# Altium integrated library Linear Technology PMIC-Switching Reg LTC1174-LTC3901.IntLib: 2647 symbols (part 203 of 310)
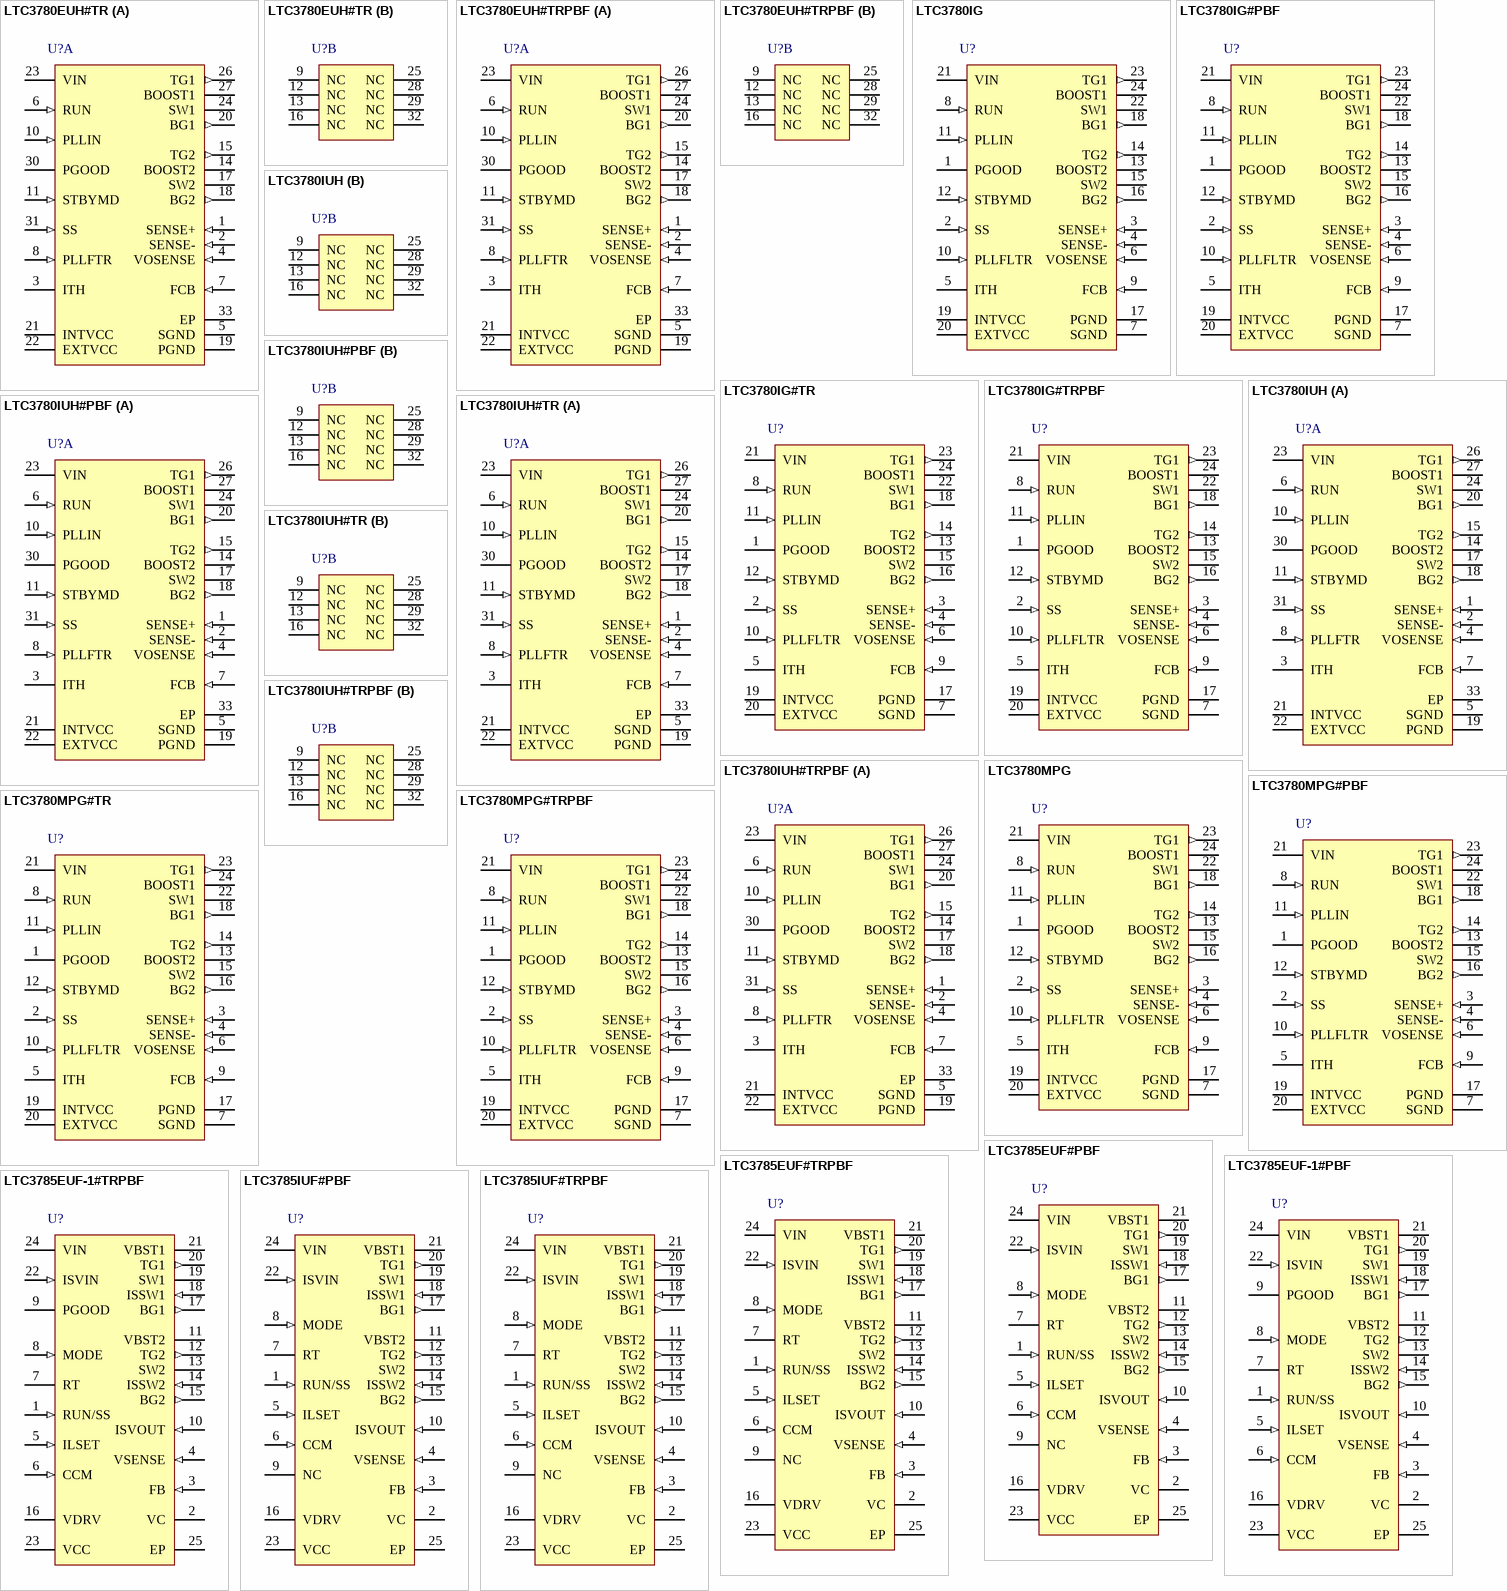
[diagram p235: symbols LTC3780EUH#TR to LTC3785IUF#TRPBF]

## LTC3785EUF-1#PBF
designator U?
10 V, High Efficiency, Buck-Boost Controller with Power Good, 24-pin QFN (UF24), -40 to 85 degC, Pb-Free; Manufacturer: Linear Technology; PartNumber: LTC3785EUF-1#PBF; Number of Outputs: 1; PackageReference: UF24; PackageDescription: 24-Pin Plastic QFN, Body 4 x 4 mm, Pitch 0.5 mm; Supplier 1: Digi-Key; Supplier Part Number 1: LTC3785EUF-1#PBF-ND; RoHS: TRUE; Code_JEDEC: MO-220
footprint LT-UF-24_N (QFN, 24-Leads, Body 4.1x4.1mm, Pitch 0.5mm, Thermal Pad 2.45x2.45mm, IPC Medium Density)
footprint LT-UF-24_L (QFN, 24-Leads, Body 4.1x4.1mm, Pitch 0.5mm, Thermal Pad 2.45x2.45mm, IPC High Density)
footprint LT-UF-24_M (QFN, 24-Leads, Body 4.1x4.1mm, Pitch 0.5mm, Thermal Pad 2.45x2.45mm, IPC Low Density)
pins: 1 RUN/SS (in), 2 VC "Error Amp Output. A frequency compensation network is connected from this pin to the FB pin to compensate the loop. See the section Closing the Feedback Loop in the Applications Information section for guidelines.", 3 FB (in) "Feedback Pin. Connect resistor divider tap here. The feedback reference voltage is typically 1.225V The output voltage can be adjusted from 2.7V to 10V according to the following formula: VOUT = 1.225V ?(R1+R2) /R2", 4 VSENSE (in) "Overvoltage and Undervoltage Sense. The overvoltage threshold is internally set 7.5% above the regulated FB voltage and the undervoltage threshold is internally set 7.5% below the FB regulated voltage. This pin can be tied (See Datasheet)", 5 ILSET (in) "Current Limit Set. A resistor from this pin to ground sets the current limit threshold from the ISVIN and ISSW1 pins.", 6 CCM (in) "Continuous Conduction Mode Control Pin. When set low, the inductor current is allowed to go slightly negative (-15mV referenced to the ISVOUT - ISSW2 pins). When driven high, the reverse current limit is set to the similar (See Datasheet)", 7 RT "Oscillator Programming Pin. A resistor from this pin to GND sets the free-running frequency of the IC.", 8 MODE (in) "Burst Mode Control Pin. MODE = High: Enable Burst Mode Operation. In Burst Mode operation the operation is variable frequency, which provides a significant efficiency improvement at light loads. The Burst Mode operation will (See Datasheet)", 9 PGOOD (oc) "Open Drain Output. PGOOD is pulled to ground when the voltage on VSENSE is not within +/-7.5% of its setpoint. PGOOD will also be pulled low when the part is in shutdown or input UVLO.", 10 ISVOUT (in) "Reverse Current Limit Comparator Noninverting Input. This pin is normally connected to the drain of the N-channel MOSFET D (TG2 driven).", 11 VBST2 "Boosted Floating Driver Supply for Boost Switch D. This pin will swing from a diode below VCC up to VOUT + VCC - VDIODE.", 12 TG2 (out) "Top gate drive pins drive the top N-channel MOSFET switches A and D with a voltage swing equal to VCC - VDIODE superimposed on the SW1 and SW2 nodes respectively.", 13 SW2 "Ground Reference for Driver D. Gate drive from TG2 will reference to the common point of output switches C and D.", 14 ISSW2 (in) "Reverse Current Limit Comparator Inverting Input. This pin is normally connected to the source of the N-channel MOSFET D (TG2 driven).", 15 BG2 (out) "Bottom gate driver pins drive the ground referenced N-channel MOSFET switches B and C.", 16 VDRV (power) "Driver Supply for Ground Referenced Switches. Connect this pin to VCC potential.", 17 BG1 (out) "Bottom gate driver pins drive the ground referenced N-channel MOSFET switches B and C.", 18 ISSW1 (in) "Forward Current Limit Comparator Noninverting Input. This pin is normally connected to the source of the N-channel MOSFET A (TG1 driven).", 19 SW1 "Ground Reference for Driver A. Gate drive from TG1 will reference to the common point of output switches A and B.", 20 TG1 (out) "Top gate drive pins drive the top N-channel MOSFET switches A and D with a voltage swing equal to VCC - VDIODE superimposed on the SW1 and SW2 nodes respectively.", 21 VBST1 "Boosted Floating Driver Supply for the Buck Switch A. This pin will swing from a diode below VCC up to VIN + VCC - VDIODE.", 22 ISVIN (in) "Forward Current Limit Comparator Inverting Input. This pin is normally connected to the drain of N-channel MOSFET A (TG1 driven).", 23 VCC (power) "Internal 4.35V LDO Regulator Output. The driver and control circuits are powered from this voltage to limit the maximum VGS drive voltage. Decouple this pin to power ground with at least a 4.7uF ceramic capacitor. For low (See Datasheet)", 24 VIN (power) "Input Supply Pin for the VCC Regulator. A ceramic capacitor of at least 10uF is recommended close to the VIN and GND pins.", 25 EP (power) "The GND and PGND pins are connected to the Exposed Pad which must be connected to the PCB ground for electrical contact and rated thermal performance."

## LTC3785EUF-1#TRPBF
designator U?
10 V, High Efficiency, Buck-Boost Controller with Power Good, 24-pin QFN (UF24), -40 to 85 degC, Pb-Free, Tape and Reel; Manufacturer: Linear Technology; PartNumber: LTC3785EUF-1#TRPBF; Number of Outputs: 1; PackageReference: UF24; PackageDescription: 24-Pin Plastic QFN, Body 4 x 4 mm, Pitch 0.5 mm; Supplier 1: Digi-Key; Supplier Part Number 1: LTC3785EUF-1#TRPBF-ND; RoHS: TRUE; Code_JEDEC: MO-220
footprint LT-UF-24_N (QFN, 24-Leads, Body 4.1x4.1mm, Pitch 0.5mm, Thermal Pad 2.45x2.45mm, IPC Medium Density)
footprint LT-UF-24_L (QFN, 24-Leads, Body 4.1x4.1mm, Pitch 0.5mm, Thermal Pad 2.45x2.45mm, IPC High Density)
footprint LT-UF-24_M (QFN, 24-Leads, Body 4.1x4.1mm, Pitch 0.5mm, Thermal Pad 2.45x2.45mm, IPC Low Density)
pins: 1 RUN/SS (in), 2 VC "Error Amp Output. A frequency compensation network is connected from this pin to the FB pin to compensate the loop. See the section Closing the Feedback Loop in the Applications Information section for guidelines.", 3 FB (in) "Feedback Pin. Connect resistor divider tap here. The feedback reference voltage is typically 1.225V The output voltage can be adjusted from 2.7V to 10V according to the following formula: VOUT = 1.225V ?(R1+R2) /R2", 4 VSENSE (in) "Overvoltage and Undervoltage Sense. The overvoltage threshold is internally set 7.5% above the regulated FB voltage and the undervoltage threshold is internally set 7.5% below the FB regulated voltage. This pin can be tied (See Datasheet)", 5 ILSET (in) "Current Limit Set. A resistor from this pin to ground sets the current limit threshold from the ISVIN and ISSW1 pins.", 6 CCM (in) "Continuous Conduction Mode Control Pin. When set low, the inductor current is allowed to go slightly negative (-15mV referenced to the ISVOUT - ISSW2 pins). When driven high, the reverse current limit is set to the similar (See Datasheet)", 7 RT "Oscillator Programming Pin. A resistor from this pin to GND sets the free-running frequency of the IC.", 8 MODE (in) "Burst Mode Control Pin. MODE = High: Enable Burst Mode Operation. In Burst Mode operation the operation is variable frequency, which provides a significant efficiency improvement at light loads. The Burst Mode operation will (See Datasheet)", 9 PGOOD (oc) "Open Drain Output. PGOOD is pulled to ground when the voltage on VSENSE is not within +/-7.5% of its setpoint. PGOOD will also be pulled low when the part is in shutdown or input UVLO.", 10 ISVOUT (in) "Reverse Current Limit Comparator Noninverting Input. This pin is normally connected to the drain of the N-channel MOSFET D (TG2 driven).", 11 VBST2 "Boosted Floating Driver Supply for Boost Switch D. This pin will swing from a diode below VCC up to VOUT + VCC - VDIODE.", 12 TG2 (out) "Top gate drive pins drive the top N-channel MOSFET switches A and D with a voltage swing equal to VCC - VDIODE superimposed on the SW1 and SW2 nodes respectively.", 13 SW2 "Ground Reference for Driver D. Gate drive from TG2 will reference to the common point of output switches C and D.", 14 ISSW2 (in) "Reverse Current Limit Comparator Inverting Input. This pin is normally connected to the source of the N-channel MOSFET D (TG2 driven).", 15 BG2 (out) "Bottom gate driver pins drive the ground referenced N-channel MOSFET switches B and C.", 16 VDRV (power) "Driver Supply for Ground Referenced Switches. Connect this pin to VCC potential.", 17 BG1 (out) "Bottom gate driver pins drive the ground referenced N-channel MOSFET switches B and C.", 18 ISSW1 (in) "Forward Current Limit Comparator Noninverting Input. This pin is normally connected to the source of the N-channel MOSFET A (TG1 driven).", 19 SW1 "Ground Reference for Driver A. Gate drive from TG1 will reference to the common point of output switches A and B.", 20 TG1 (out) "Top gate drive pins drive the top N-channel MOSFET switches A and D with a voltage swing equal to VCC - VDIODE superimposed on the SW1 and SW2 nodes respectively.", 21 VBST1 "Boosted Floating Driver Supply for the Buck Switch A. This pin will swing from a diode below VCC up to VIN + VCC - VDIODE.", 22 ISVIN (in) "Forward Current Limit Comparator Inverting Input. This pin is normally connected to the drain of N-channel MOSFET A (TG1 driven).", 23 VCC (power) "Internal 4.35V LDO Regulator Output. The driver and control circuits are powered from this voltage to limit the maximum VGS drive voltage. Decouple this pin to power ground with at least a 4.7uF ceramic capacitor. For low (See Datasheet)", 24 VIN (power) "Input Supply Pin for the VCC Regulator. A ceramic capacitor of at least 10uF is recommended close to the VIN and GND pins.", 25 EP (power) "The GND and PGND pins are connected to the Exposed Pad which must be connected to the PCB ground for electrical contact and rated thermal performance."

## LTC3785IUF#PBF
designator U?
High Efficiency, Synchronous, No Rsense Buck-Boost Controller, 24-pin QFN (UF24), -40 to 125 degC, Pb-Free; Manufacturer: Linear Technology; PartNumber: LTC3785IUF#PBF; Number of Outputs: 1; PackageReference: UF24; PackageDescription: 24-Pin Plastic QFN, Body 4 x 4 mm, Pitch 0.5 mm; Supplier 1: Digi-Key; Supplier Part Number 1: LTC3785IUF#PBF-ND; RoHS: TRUE; Code_JEDEC: MO-220
footprint LT-UF-24_N (QFN, 24-Leads, Body 4.1x4.1mm, Pitch 0.5mm, Thermal Pad 2.45x2.45mm, IPC Medium Density)
footprint LT-UF-24_L (QFN, 24-Leads, Body 4.1x4.1mm, Pitch 0.5mm, Thermal Pad 2.45x2.45mm, IPC High Density)
footprint LT-UF-24_M (QFN, 24-Leads, Body 4.1x4.1mm, Pitch 0.5mm, Thermal Pad 2.45x2.45mm, IPC Low Density)
pins: 1 RUN/SS (in), 2 VC "Error Amp Output. A frequency compensation network is connected from this pin to the FB pin to compensate the loop. See the section Closing the Feedback Loop in the Applications Information section for guidelines.", 3 FB (in) "Feedback Pin. Connect resistor divider tap here. The feedback reference voltage is typically 1.225V The output voltage can be adjusted from 2.7V to 10V according to the following formula: VOUT = 1.225V ?(R1+R2) /R2", 4 VSENSE (in) "Overvoltage and Undervoltage Sense. The overvoltage threshold is internally set 10% above the regulated FB voltage and the undervoltage threshold is internally set 6.5% below the FB regulated voltage. This pin can be tied to (See Datasheet)", 5 ILSET (in) "Current Limit Set. A resistor from this pin to ground sets the current limit threshold from the ISVIN and ISSW1 pins.", 6 CCM (in) "Continuous Conduction Mode Control Pin. When set low, the inductor current is allowed to go slightly negative (-15mV referenced to the ISVOUT - ISSW2 pins). When driven high, the reverse current limit is set to the similar (See Datasheet)", 7 RT "Oscillator Programming Pin. A resistor from this pin to GND sets the free-running frequency of the IC .", 8 MODE (in) "Burst Mode Control Pin. MODE = High: Enable Burst Mode Operation. In Burst Mode operation the operation is variable frequency, which provides a significant efficiency improvement at light loads. The Burst Mode operation will (See Datasheet)", 9 NC "No Connect. There is no electrical connection to this pin inside the package.", 10 ISVOUT (in) "Reverse Current Limit Comparator Noninverting Input. This pin is normally connected to the drain of the N-channel MOSFET D (TG2 driven).", 11 VBST2 "Boosted Floating Driver Supply for Boost Switch D. This pin will swing from a diode below VCC up to VOUT + VCC - VDIODE.", 12 TG2 (out) "Top gate drive pins drive the top N-channel MOSFET switches A and D with a voltage swing equal to VCC - VDIODE superimposed on the SW1 and SW2 nodes respectively.", 13 SW2 "Ground Reference for Driver D. Gate drive from TG2 will reference to the common point of output switches C and D.", 14 ISSW2 (in) "Reverse Current Limit Comparator Inverting Input. This pin is normally connected to the source of the N-channel MOSFET D (TG2 driven).", 15 BG2 (out) "Bottom gate driver pins drive the ground referenced N-channel MOSFET switches B and C.", 16 VDRV (power) "Driver Supply for Ground Referenced Switches. Connect this pin to VCC potential.", 17 BG1 (out) "Bottom gate driver pins drive the ground referenced N-channel MOSFET switches B and C.", 18 ISSW1 (in) "Forward Current Limit Comparator Noninverting Input. This pin is normally connected to the source of the N-channel MOSFET A (TG1 driven).", 19 SW1 "Ground Reference for Driver A. Gate drive from TG1 will reference to the common point of output switches A and B.", 20 TG1 (out) "Top gate drive pins drive the top N-channel MOSFET switches A and D with a voltage swing equal to VCC - VDIODE superimposed on the SW1 and SW2 nodes respectively.", 21 VBST1 "Boosted Floating Driver Supply for the Buck Switch A. This pin will swing from a diode below VCC up to VIN + VCC - VDIODE.", 22 ISVIN (in) "Forward Current Limit Comparator Inverting Input. This pin is normally connected to the drain of N-channel MOSFET A (TG1 driven).", 23 VCC (power) "Internal 4.35V LDO Regulator Output. The driver and control circuits are powered from this voltage to limit the maximum VGS drive voltage. Decouple this pin to power ground with at least a 4.7uF ceramic capacitor. For low (See Datasheet)", 24 VIN (power) "Input Supply Pin for the VCC Regulator. A ceramic capacitor of at least 10uF is recommended close to the VIN and GND pins.", 25 EP (power) "The GND and PGND pins are connected to the Exposed Pad which must be connected to the PCB ground for electrical contact and rated thermal performance."

## LTC3785IUF#TRPBF
designator U?
High Efficiency, Synchronous, No Rsense Buck-Boost Controller, 24-pin QFN (UF24), -40 to 125 degC, Pb-Free, Tape and Reel; Manufacturer: Linear Technology; PartNumber: LTC3785IUF#TRPBF; Number of Outputs: 1; PackageReference: UF24; PackageDescription: 24-Pin Plastic QFN, Body 4 x 4 mm, Pitch 0.5 mm; Supplier 1: Digi-Key; Supplier Part Number 1: LTC3785IUF#TRPBF-ND; RoHS: TRUE; Code_JEDEC: MO-220
footprint LT-UF-24_N (QFN, 24-Leads, Body 4.1x4.1mm, Pitch 0.5mm, Thermal Pad 2.45x2.45mm, IPC Medium Density)
footprint LT-UF-24_L (QFN, 24-Leads, Body 4.1x4.1mm, Pitch 0.5mm, Thermal Pad 2.45x2.45mm, IPC High Density)
footprint LT-UF-24_M (QFN, 24-Leads, Body 4.1x4.1mm, Pitch 0.5mm, Thermal Pad 2.45x2.45mm, IPC Low Density)
pins: 1 RUN/SS (in), 2 VC "Error Amp Output. A frequency compensation network is connected from this pin to the FB pin to compensate the loop. See the section Closing the Feedback Loop in the Applications Information section for guidelines.", 3 FB (in) "Feedback Pin. Connect resistor divider tap here. The feedback reference voltage is typically 1.225V The output voltage can be adjusted from 2.7V to 10V according to the following formula: VOUT = 1.225V ?(R1+R2) /R2", 4 VSENSE (in) "Overvoltage and Undervoltage Sense. The overvoltage threshold is internally set 10% above the regulated FB voltage and the undervoltage threshold is internally set 6.5% below the FB regulated voltage. This pin can be tied to (See Datasheet)", 5 ILSET (in) "Current Limit Set. A resistor from this pin to ground sets the current limit threshold from the ISVIN and ISSW1 pins.", 6 CCM (in) "Continuous Conduction Mode Control Pin. When set low, the inductor current is allowed to go slightly negative (-15mV referenced to the ISVOUT - ISSW2 pins). When driven high, the reverse current limit is set to the similar (See Datasheet)", 7 RT "Oscillator Programming Pin. A resistor from this pin to GND sets the free-running frequency of the IC .", 8 MODE (in) "Burst Mode Control Pin. MODE = High: Enable Burst Mode Operation. In Burst Mode operation the operation is variable frequency, which provides a significant efficiency improvement at light loads. The Burst Mode operation will (See Datasheet)", 9 NC "No Connect. There is no electrical connection to this pin inside the package.", 10 ISVOUT (in) "Reverse Current Limit Comparator Noninverting Input. This pin is normally connected to the drain of the N-channel MOSFET D (TG2 driven).", 11 VBST2 "Boosted Floating Driver Supply for Boost Switch D. This pin will swing from a diode below VCC up to VOUT + VCC - VDIODE.", 12 TG2 (out) "Top gate drive pins drive the top N-channel MOSFET switches A and D with a voltage swing equal to VCC - VDIODE superimposed on the SW1 and SW2 nodes respectively.", 13 SW2 "Ground Reference for Driver D. Gate drive from TG2 will reference to the common point of output switches C and D.", 14 ISSW2 (in) "Reverse Current Limit Comparator Inverting Input. This pin is normally connected to the source of the N-channel MOSFET D (TG2 driven).", 15 BG2 (out) "Bottom gate driver pins drive the ground referenced N-channel MOSFET switches B and C.", 16 VDRV (power) "Driver Supply for Ground Referenced Switches. Connect this pin to VCC potential.", 17 BG1 (out) "Bottom gate driver pins drive the ground referenced N-channel MOSFET switches B and C.", 18 ISSW1 (in) "Forward Current Limit Comparator Noninverting Input. This pin is normally connected to the source of the N-channel MOSFET A (TG1 driven).", 19 SW1 "Ground Reference for Driver A. Gate drive from TG1 will reference to the common point of output switches A and B.", 20 TG1 (out) "Top gate drive pins drive the top N-channel MOSFET switches A and D with a voltage swing equal to VCC - VDIODE superimposed on the SW1 and SW2 nodes respectively.", 21 VBST1 "Boosted Floating Driver Supply for the Buck Switch A. This pin will swing from a diode below VCC up to VIN + VCC - VDIODE.", 22 ISVIN (in) "Forward Current Limit Comparator Inverting Input. This pin is normally connected to the drain of N-channel MOSFET A (TG1 driven).", 23 VCC (power) "Internal 4.35V LDO Regulator Output. The driver and control circuits are powered from this voltage to limit the maximum VGS drive voltage. Decouple this pin to power ground with at least a 4.7uF ceramic capacitor. For low (See Datasheet)", 24 VIN (power) "Input Supply Pin for the VCC Regulator. A ceramic capacitor of at least 10uF is recommended close to the VIN and GND pins.", 25 EP (power) "The GND and PGND pins are connected to the Exposed Pad which must be connected to the PCB ground for electrical contact and rated thermal performance."

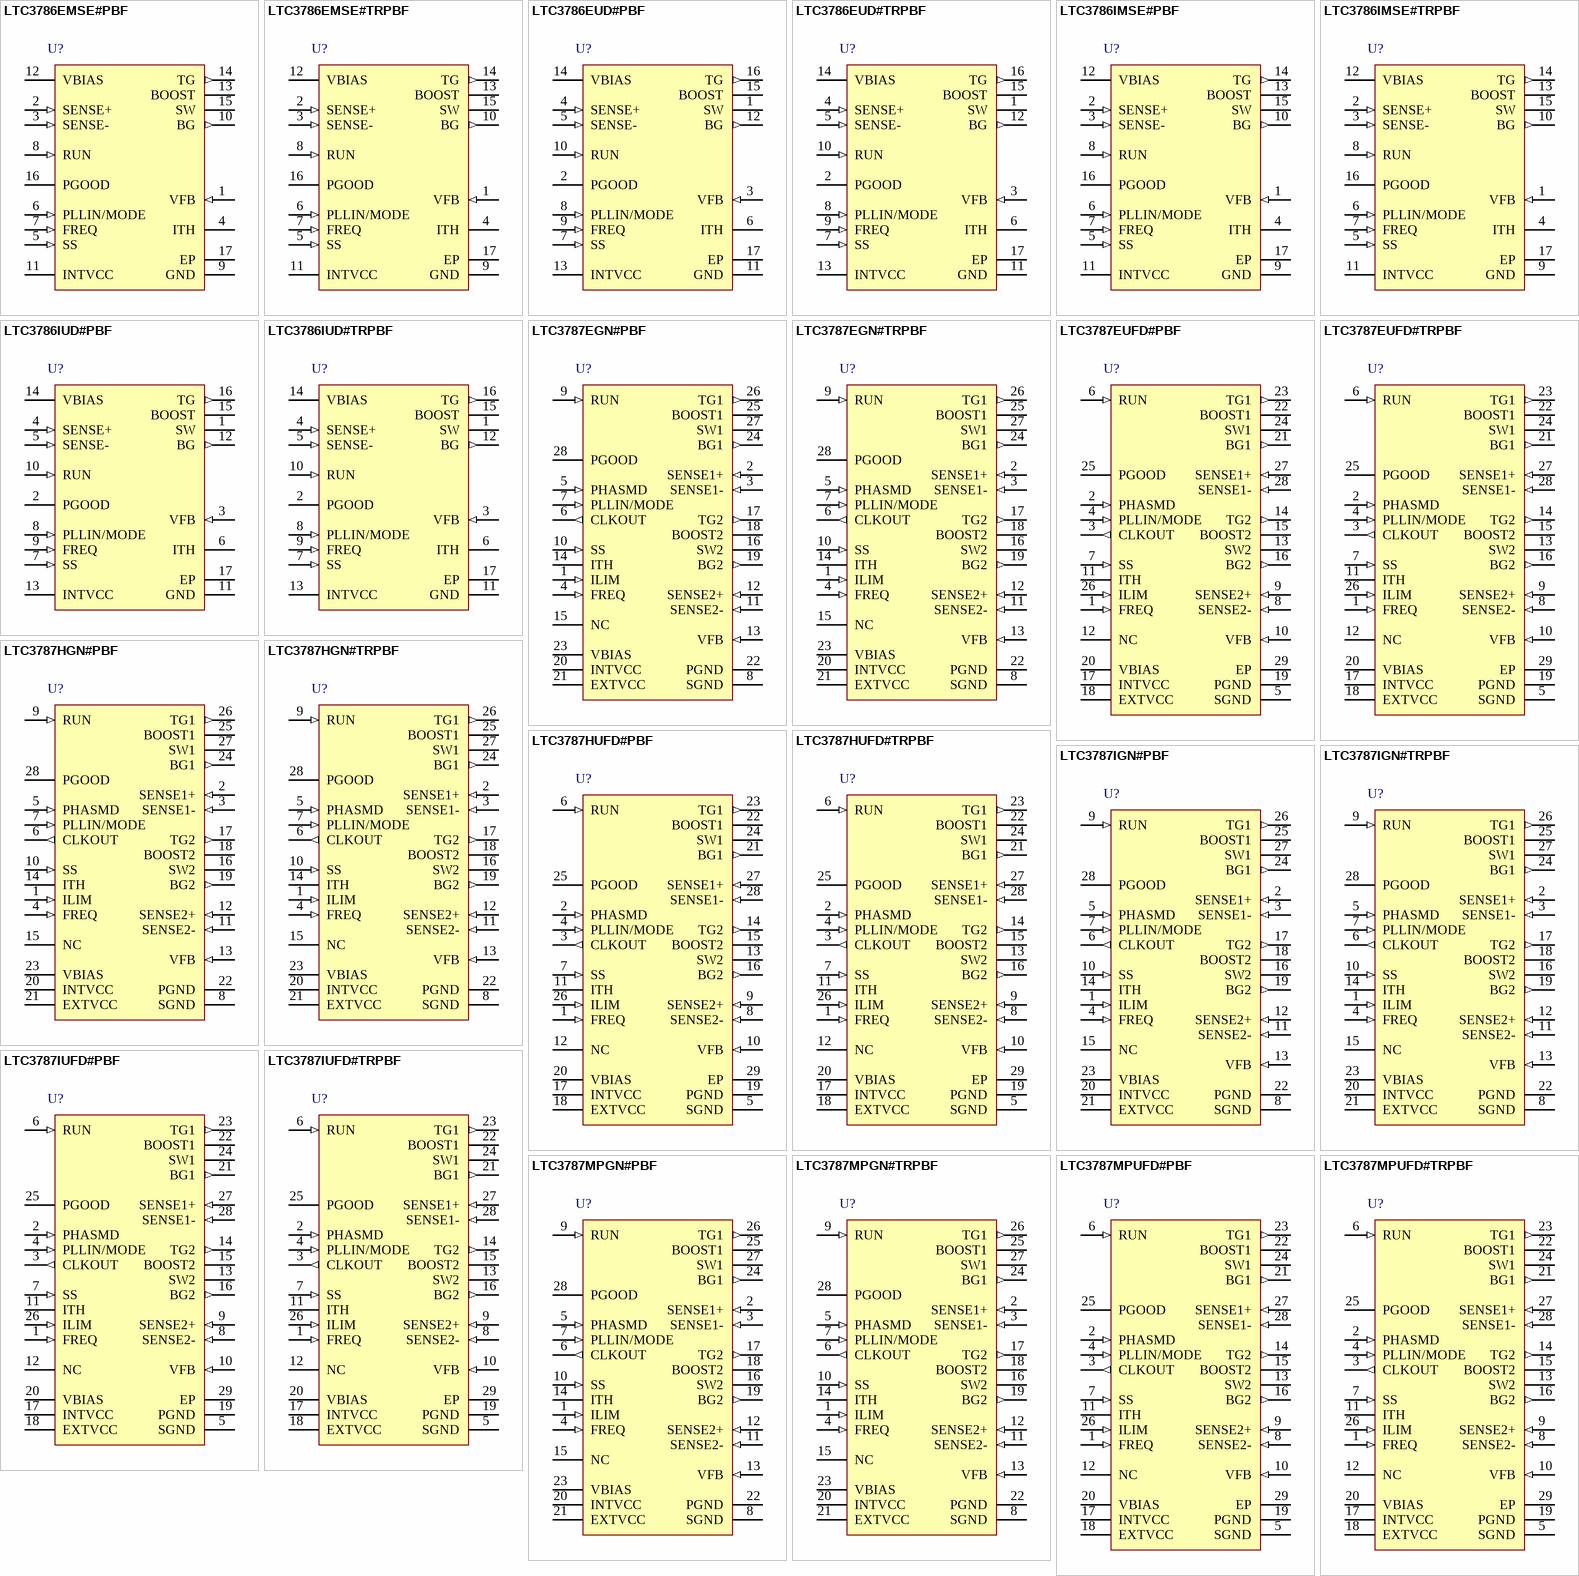
[diagram p72: symbols LTC3786EMSE#PBF to LTC3787MPUFD#TRPBF]

## LTC3786EMSE#PBF
designator U?
Sync Boost Controller, Low 55 uA IQ, 16-pin SOP (MSE-16-EDP), -40 to 125 degC, Pb-Free; Manufacturer: Linear Technology; PartNumber: LTC3786EMSE#PBF; Number of Outputs: 1; PackageReference: MSE-16; PackageDescription: 16-Pin Plastic MSOP, Exposed Die Pad, Body 4.039 x 3 mm, Pitch 0.5 mm; Supplier 1: Digi-Key; Supplier Part Number 1: LTC3786EMSE#PBF-ND; RoHS: TRUE
footprint LT-MSE-16-EDP_N (SOP, 16-Leads, Body 4.1x3.1mm, Pitch 0.5mm, Thermal Pad 2.95x1.76mm, IPC Medium Density)
footprint LT-MSE-16-EDP_L (SOP, 16-Leads, Body 4.1x3.1mm, Pitch 0.5mm, Thermal Pad 2.95x1.76mm, IPC High Density)
footprint LT-MSE-16-EDP_M (SOP, 16-Leads, Body 4.1x3.1mm, Pitch 0.5mm, Thermal Pad 2.95x1.76mm, IPC Low Density)
pins: 1 VFB (in) "Error Amplifier Feedback Input. This pin receives the remotely sensed feedback voltage from an external resistive divider connected across the output", 2 SENSE+ (in) "Positive Current Sense Comparator Input. The (+) input to the current comparator is normally connected to the positive terminal of a current sense resistor. The current sense resistor is normally placed at the input of the (See Datasheet)", 3 SENSE- (in) "Negative Current Sense Comparator Input. The (-) input to the current comparator is normally connected to the negative terminal of a current sense resistor connected in series with the inductor. The common mode voltage range (See Datasheet)", 4 ITH "Current Control Threshold and Error Amplifier Compensation Point. The voltage on this pin sets the current trip threshold.", 5 SS (in) "Output Soft-Start Input. A capacitor to ground at this pin sets the ramp rate of the output voltage during start-up.", 6 PLLIN/MODE (in) "External Synchronization Input to Phase Detector and Forced Continuous Mode Input. When an external clock is applied to this pin, it will force the controller into forced continuous mode of operation and the phase-locked (See Datasheet)", 7 FREQ (in) "The Frequency Control Pin for the Internal VCO. Connecting the pin to GND forces the VCO to a fixed low frequency of 350kHz. Connecting the pin to INTVCC forces the VCO to a fixed high frequency of 535kHz. The frequency can (See Datasheet)", 8 RUN (in) "Run Control Input. Forcing this pin below 1.28V shuts down the controller. Forcing this pin below 0.7V shuts down the entire LTC3786, reducing quiescent current to approximately 8uA. An external resistor divider connected to (See Datasheet)", 9 GND (power) "Ground. Connects to the source of the bottom (main) N-channel MOSFET and the (-) terminal(s) of CIN and COUT . All small-signal components and compensation components should also connect to this ground. The exposed pad must (See Datasheet)", 10 BG (out) "Bottom Gate. Connect to the gate of the main N-channel MOSFET.", 11 INTVCC (power) "Output of Internal 5.4V LDO. Power supply for control circuits and gate drivers. Decouple this pin to GND with a minimum 4.7uF low ESR ceramic capacitor.", 12 VBIAS (power) "Main Supply Pin. It is normally tied to the input supply VIN or to the output of the boost converter. A bypass capacitor should be tied between this pin and the GND pin. The operating voltage range on this pin is 4.5V to 38V (See Datasheet)", 13 BOOST "Floating Power Supply for the Synchronous MOSFET. Bypass to SW with a capacitor and supply with a Schottky diode connected to INTVCC.", 14 TG (out) "Top Gate. Connect to the gate of the synchronous NMOS.", 15 SW "Switch Node. Connect to the source of the synchronous top MOSFET, the drain of the main bottom MOSFET, and the inductor", 16 PGOOD (oc) "Power Good Indicator. Open-drain logic output that is pulled to ground when the output voltage is more than +/-10 % away from the regulated output voltage. To avoid false trips the output voltage must be outside of the range (See Datasheet)", 17 EP (power) "The exposed pad must be soldered to the PCB for rated thermal performance."

## LTC3786EMSE#TRPBF
designator U?
Sync Boost Controller, Low 55 uA IQ, 16-pin SOP (MSE-16-EDP), -40 to 125 degC, Pb-Free, Tape and Reel; Manufacturer: Linear Technology; PartNumber: LTC3786EMSE#TRPBF; Number of Outputs: 1; PackageReference: MSE-16; PackageDescription: 16-Pin Plastic MSOP, Exposed Die Pad, Body 4.039 x 3 mm, Pitch 0.5 mm; Supplier 1: Digi-Key; Supplier Part Number 1: LTC3786EMSE#TRPBF-ND; RoHS: TRUE
footprint LT-MSE-16-EDP_N (SOP, 16-Leads, Body 4.1x3.1mm, Pitch 0.5mm, Thermal Pad 2.95x1.76mm, IPC Medium Density)
footprint LT-MSE-16-EDP_L (SOP, 16-Leads, Body 4.1x3.1mm, Pitch 0.5mm, Thermal Pad 2.95x1.76mm, IPC High Density)
footprint LT-MSE-16-EDP_M (SOP, 16-Leads, Body 4.1x3.1mm, Pitch 0.5mm, Thermal Pad 2.95x1.76mm, IPC Low Density)
pins: 1 VFB (in) "Error Amplifier Feedback Input. This pin receives the remotely sensed feedback voltage from an external resistive divider connected across the output", 2 SENSE+ (in) "Positive Current Sense Comparator Input. The (+) input to the current comparator is normally connected to the positive terminal of a current sense resistor. The current sense resistor is normally placed at the input of the (See Datasheet)", 3 SENSE- (in) "Negative Current Sense Comparator Input. The (-) input to the current comparator is normally connected to the negative terminal of a current sense resistor connected in series with the inductor. The common mode voltage range (See Datasheet)", 4 ITH "Current Control Threshold and Error Amplifier Compensation Point. The voltage on this pin sets the current trip threshold.", 5 SS (in) "Output Soft-Start Input. A capacitor to ground at this pin sets the ramp rate of the output voltage during start-up.", 6 PLLIN/MODE (in) "External Synchronization Input to Phase Detector and Forced Continuous Mode Input. When an external clock is applied to this pin, it will force the controller into forced continuous mode of operation and the phase-locked (See Datasheet)", 7 FREQ (in) "The Frequency Control Pin for the Internal VCO. Connecting the pin to GND forces the VCO to a fixed low frequency of 350kHz. Connecting the pin to INTVCC forces the VCO to a fixed high frequency of 535kHz. The frequency can (See Datasheet)", 8 RUN (in) "Run Control Input. Forcing this pin below 1.28V shuts down the controller. Forcing this pin below 0.7V shuts down the entire LTC3786, reducing quiescent current to approximately 8uA. An external resistor divider connected to (See Datasheet)", 9 GND (power) "Ground. Connects to the source of the bottom (main) N-channel MOSFET and the (-) terminal(s) of CIN and COUT . All small-signal components and compensation components should also connect to this ground. The exposed pad must (See Datasheet)", 10 BG (out) "Bottom Gate. Connect to the gate of the main N-channel MOSFET.", 11 INTVCC (power) "Output of Internal 5.4V LDO. Power supply for control circuits and gate drivers. Decouple this pin to GND with a minimum 4.7uF low ESR ceramic capacitor.", 12 VBIAS (power) "Main Supply Pin. It is normally tied to the input supply VIN or to the output of the boost converter. A bypass capacitor should be tied between this pin and the GND pin. The operating voltage range on this pin is 4.5V to 38V (See Datasheet)", 13 BOOST "Floating Power Supply for the Synchronous MOSFET. Bypass to SW with a capacitor and supply with a Schottky diode connected to INTVCC.", 14 TG (out) "Top Gate. Connect to the gate of the synchronous NMOS.", 15 SW "Switch Node. Connect to the source of the synchronous top MOSFET, the drain of the main bottom MOSFET, and the inductor", 16 PGOOD (oc) "Power Good Indicator. Open-drain logic output that is pulled to ground when the output voltage is more than +/-10 % away from the regulated output voltage. To avoid false trips the output voltage must be outside of the range (See Datasheet)", 17 EP (power) "The exposed pad must be soldered to the PCB for rated thermal performance."

## LTC3786EUD#PBF
designator U?
Sync Boost Controller, Low 55 uA IQ, 16-pin QFN (UD-16), -40 to 125 degC, Pb-Free; Manufacturer: Linear Technology; PartNumber: LTC3786EUD#PBF; Number of Outputs: 1; PackageReference: UD-16; PackageDescription: 16-Pin Plastic QFN, Body 3 x 3 mm, Pitch 0.5 mm; Supplier 1: Digi-Key; Supplier Part Number 1: LTC3786EUD#PBF-ND; RoHS: TRUE; Code_JEDEC: MO-220
footprint LT-UD-16_N (QFN, 16-Leads, Body 3x3mm, Pitch 0.5mm, Thermal Pad 1.45x1.45mm, IPC Medium Density)
footprint LT-UD-16_L (QFN, 16-Leads, Body 3x3mm, Pitch 0.5mm, Thermal Pad 1.45x1.45mm, IPC High Density)
footprint LT-UD-16_M (QFN, 16-Leads, Body 3x3mm, Pitch 0.5mm, Thermal Pad 1.45x1.45mm, IPC Low Density)
pins: 1 SW "Switch Node. Connect to the source of the synchronous top MOSFET, the drain of the main bottom MOSFET, and the inductor", 2 PGOOD (oc) "Power Good Indicator. Open-drain logic output that is pulled to ground when the output voltage is more than +/-10 % away from the regulated output voltage. To avoid false trips the output voltage must be outside of the range (See Datasheet)", 3 VFB (in) "Error Amplifier Feedback Input. This pin receives the remotely sensed feedback voltage from an external resistive divider connected across the output", 4 SENSE+ (in) "Positive Current Sense Comparator Input. The (+) input to the current comparator is normally connected to the positive terminal of a current sense resistor. The current sense resistor is normally placed at the input of the (See Datasheet)", 5 SENSE- (in) "Negative Current Sense Comparator Input. The (-) input to the current comparator is normally connected to the negative terminal of a current sense resistor connected in series with the inductor. The common mode voltage range (See Datasheet)", 6 ITH "Current Control Threshold and Error Amplifier Compensation Point. The voltage on this pin sets the current trip threshold.", 7 SS (in) "Output Soft-Start Input. A capacitor to ground at this pin sets the ramp rate of the output voltage during start-up.", 8 PLLIN/MODE (in) "External Synchronization Input to Phase Detector and Forced Continuous Mode Input. When an external clock is applied to this pin, it will force the controller into forced continuous mode of operation and the phase-locked (See Datasheet)", 9 FREQ (in) "The Frequency Control Pin for the Internal VCO. Connecting the pin to GND forces the VCO to a fixed low frequency of 350kHz. Connecting the pin to INTVCC forces the VCO to a fixed high frequency of 535kHz. The frequency can (See Datasheet)", 10 RUN (in) "Run Control Input. Forcing this pin below 1.28V shuts down the controller. Forcing this pin below 0.7V shuts down the entire LTC3786, reducing quiescent current to approximately 8uA. An external resistor divider connected to (See Datasheet)", 11 GND (power) "Ground. Connects to the source of the bottom (main) N-channel MOSFET and the (-) terminal(s) of CIN and COUT . All small-signal components and compensation components should also connect to this ground. The exposed pad must (See Datasheet)", 12 BG (out) "Bottom Gate. Connect to the gate of the main N-channel MOSFET.", 13 INTVCC (power) "Output of Internal 5.4V LDO. Power supply for control circuits and gate drivers. Decouple this pin to GND with a minimum 4.7uF low ESR ceramic capacitor.", 14 VBIAS (power) "Main Supply Pin. It is normally tied to the input supply VIN or to the output of the boost converter. A bypass capacitor should be tied between this pin and the GND pin. The operating voltage range on this pin is 4.5V to 38V (See Datasheet)", 15 BOOST "Floating Power Supply for the Synchronous MOSFET. Bypass to SW with a capacitor and supply with a Schottky diode connected to INTVCC.", 16 TG (out) "Top Gate. Connect to the gate of the synchronous NMOS.", 17 EP (power) "The exposed pad must be soldered to the PCB for rated thermal performance."

## LTC3786EUD#TRPBF
designator U?
Sync Boost Controller, Low 55 uA IQ, 16-pin QFN (UD-16), -40 to 125 degC, Pb-Free, Tape and Reel; Manufacturer: Linear Technology; PartNumber: LTC3786EUD#TRPBF; Number of Outputs: 1; PackageReference: UD-16; PackageDescription: 16-Pin Plastic QFN, Body 3 x 3 mm, Pitch 0.5 mm; Supplier 1: Digi-Key; Supplier Part Number 1: LTC3786EUD#TRPBF-ND; RoHS: TRUE; Code_JEDEC: MO-220
footprint LT-UD-16_N (QFN, 16-Leads, Body 3x3mm, Pitch 0.5mm, Thermal Pad 1.45x1.45mm, IPC Medium Density)
footprint LT-UD-16_L (QFN, 16-Leads, Body 3x3mm, Pitch 0.5mm, Thermal Pad 1.45x1.45mm, IPC High Density)
footprint LT-UD-16_M (QFN, 16-Leads, Body 3x3mm, Pitch 0.5mm, Thermal Pad 1.45x1.45mm, IPC Low Density)
pins: 1 SW "Switch Node. Connect to the source of the synchronous top MOSFET, the drain of the main bottom MOSFET, and the inductor", 2 PGOOD (oc) "Power Good Indicator. Open-drain logic output that is pulled to ground when the output voltage is more than +/-10 % away from the regulated output voltage. To avoid false trips the output voltage must be outside of the range (See Datasheet)", 3 VFB (in) "Error Amplifier Feedback Input. This pin receives the remotely sensed feedback voltage from an external resistive divider connected across the output", 4 SENSE+ (in) "Positive Current Sense Comparator Input. The (+) input to the current comparator is normally connected to the positive terminal of a current sense resistor. The current sense resistor is normally placed at the input of the (See Datasheet)", 5 SENSE- (in) "Negative Current Sense Comparator Input. The (-) input to the current comparator is normally connected to the negative terminal of a current sense resistor connected in series with the inductor. The common mode voltage range (See Datasheet)", 6 ITH "Current Control Threshold and Error Amplifier Compensation Point. The voltage on this pin sets the current trip threshold.", 7 SS (in) "Output Soft-Start Input. A capacitor to ground at this pin sets the ramp rate of the output voltage during start-up.", 8 PLLIN/MODE (in) "External Synchronization Input to Phase Detector and Forced Continuous Mode Input. When an external clock is applied to this pin, it will force the controller into forced continuous mode of operation and the phase-locked (See Datasheet)", 9 FREQ (in) "The Frequency Control Pin for the Internal VCO. Connecting the pin to GND forces the VCO to a fixed low frequency of 350kHz. Connecting the pin to INTVCC forces the VCO to a fixed high frequency of 535kHz. The frequency can (See Datasheet)", 10 RUN (in) "Run Control Input. Forcing this pin below 1.28V shuts down the controller. Forcing this pin below 0.7V shuts down the entire LTC3786, reducing quiescent current to approximately 8uA. An external resistor divider connected to (See Datasheet)", 11 GND (power) "Ground. Connects to the source of the bottom (main) N-channel MOSFET and the (-) terminal(s) of CIN and COUT . All small-signal components and compensation components should also connect to this ground. The exposed pad must (See Datasheet)", 12 BG (out) "Bottom Gate. Connect to the gate of the main N-channel MOSFET.", 13 INTVCC (power) "Output of Internal 5.4V LDO. Power supply for control circuits and gate drivers. Decouple this pin to GND with a minimum 4.7uF low ESR ceramic capacitor.", 14 VBIAS (power) "Main Supply Pin. It is normally tied to the input supply VIN or to the output of the boost converter. A bypass capacitor should be tied between this pin and the GND pin. The operating voltage range on this pin is 4.5V to 38V (See Datasheet)", 15 BOOST "Floating Power Supply for the Synchronous MOSFET. Bypass to SW with a capacitor and supply with a Schottky diode connected to INTVCC.", 16 TG (out) "Top Gate. Connect to the gate of the synchronous NMOS.", 17 EP (power) "The exposed pad must be soldered to the PCB for rated thermal performance."

## LTC3786IMSE#PBF
designator U?
Sync Boost Controller, Low 55 uA IQ, 16-pin SOP (MSE-16-EDP), -40 to 125 degC, Pb-Free; Manufacturer: Linear Technology; PartNumber: LTC3786IMSE#PBF; Number of Outputs: 1; PackageReference: MSE-16; PackageDescription: 16-Pin Plastic MSOP, Exposed Die Pad, Body 4.039 x 3 mm, Pitch 0.5 mm; Supplier 1: Digi-Key; Supplier Part Number 1: LTC3786IMSE#PBF-ND; RoHS: TRUE
footprint LT-MSE-16-EDP_N (SOP, 16-Leads, Body 4.1x3.1mm, Pitch 0.5mm, Thermal Pad 2.95x1.76mm, IPC Medium Density)
footprint LT-MSE-16-EDP_L (SOP, 16-Leads, Body 4.1x3.1mm, Pitch 0.5mm, Thermal Pad 2.95x1.76mm, IPC High Density)
footprint LT-MSE-16-EDP_M (SOP, 16-Leads, Body 4.1x3.1mm, Pitch 0.5mm, Thermal Pad 2.95x1.76mm, IPC Low Density)
pins: 1 VFB (in) "Error Amplifier Feedback Input. This pin receives the remotely sensed feedback voltage from an external resistive divider connected across the output", 2 SENSE+ (in) "Positive Current Sense Comparator Input. The (+) input to the current comparator is normally connected to the positive terminal of a current sense resistor. The current sense resistor is normally placed at the input of the (See Datasheet)", 3 SENSE- (in) "Negative Current Sense Comparator Input. The (-) input to the current comparator is normally connected to the negative terminal of a current sense resistor connected in series with the inductor. The common mode voltage range (See Datasheet)", 4 ITH "Current Control Threshold and Error Amplifier Compensation Point. The voltage on this pin sets the current trip threshold.", 5 SS (in) "Output Soft-Start Input. A capacitor to ground at this pin sets the ramp rate of the output voltage during start-up.", 6 PLLIN/MODE (in) "External Synchronization Input to Phase Detector and Forced Continuous Mode Input. When an external clock is applied to this pin, it will force the controller into forced continuous mode of operation and the phase-locked (See Datasheet)", 7 FREQ (in) "The Frequency Control Pin for the Internal VCO. Connecting the pin to GND forces the VCO to a fixed low frequency of 350kHz. Connecting the pin to INTVCC forces the VCO to a fixed high frequency of 535kHz. The frequency can (See Datasheet)", 8 RUN (in) "Run Control Input. Forcing this pin below 1.28V shuts down the controller. Forcing this pin below 0.7V shuts down the entire LTC3786, reducing quiescent current to approximately 8uA. An external resistor divider connected to (See Datasheet)", 9 GND (power) "Ground. Connects to the source of the bottom (main) N-channel MOSFET and the (-) terminal(s) of CIN and COUT . All small-signal components and compensation components should also connect to this ground. The exposed pad must (See Datasheet)", 10 BG (out) "Bottom Gate. Connect to the gate of the main N-channel MOSFET.", 11 INTVCC (power) "Output of Internal 5.4V LDO. Power supply for control circuits and gate drivers. Decouple this pin to GND with a minimum 4.7uF low ESR ceramic capacitor.", 12 VBIAS (power) "Main Supply Pin. It is normally tied to the input supply VIN or to the output of the boost converter. A bypass capacitor should be tied between this pin and the GND pin. The operating voltage range on this pin is 4.5V to 38V (See Datasheet)", 13 BOOST "Floating Power Supply for the Synchronous MOSFET. Bypass to SW with a capacitor and supply with a Schottky diode connected to INTVCC.", 14 TG (out) "Top Gate. Connect to the gate of the synchronous NMOS.", 15 SW "Switch Node. Connect to the source of the synchronous top MOSFET, the drain of the main bottom MOSFET, and the inductor", 16 PGOOD (oc) "Power Good Indicator. Open-drain logic output that is pulled to ground when the output voltage is more than +/-10 % away from the regulated output voltage. To avoid false trips the output voltage must be outside of the range (See Datasheet)", 17 EP (power) "The exposed pad must be soldered to the PCB for rated thermal performance."

## LTC3786IMSE#TRPBF
designator U?
Sync Boost Controller, Low 55 uA IQ, 16-pin SOP (MSE-16-EDP), -40 to 125 degC, Pb-Free, Tape and Reel; Manufacturer: Linear Technology; PartNumber: LTC3786IMSE#TRPBF; Number of Outputs: 1; PackageReference: MSE-16; PackageDescription: 16-Pin Plastic MSOP, Exposed Die Pad, Body 4.039 x 3 mm, Pitch 0.5 mm; Supplier 1: Digi-Key; Supplier Part Number 1: LTC3786IMSE#TRPBF-ND; RoHS: TRUE
footprint LT-MSE-16-EDP_N (SOP, 16-Leads, Body 4.1x3.1mm, Pitch 0.5mm, Thermal Pad 2.95x1.76mm, IPC Medium Density)
footprint LT-MSE-16-EDP_L (SOP, 16-Leads, Body 4.1x3.1mm, Pitch 0.5mm, Thermal Pad 2.95x1.76mm, IPC High Density)
footprint LT-MSE-16-EDP_M (SOP, 16-Leads, Body 4.1x3.1mm, Pitch 0.5mm, Thermal Pad 2.95x1.76mm, IPC Low Density)
pins: 1 VFB (in) "Error Amplifier Feedback Input. This pin receives the remotely sensed feedback voltage from an external resistive divider connected across the output", 2 SENSE+ (in) "Positive Current Sense Comparator Input. The (+) input to the current comparator is normally connected to the positive terminal of a current sense resistor. The current sense resistor is normally placed at the input of the (See Datasheet)", 3 SENSE- (in) "Negative Current Sense Comparator Input. The (-) input to the current comparator is normally connected to the negative terminal of a current sense resistor connected in series with the inductor. The common mode voltage range (See Datasheet)", 4 ITH "Current Control Threshold and Error Amplifier Compensation Point. The voltage on this pin sets the current trip threshold.", 5 SS (in) "Output Soft-Start Input. A capacitor to ground at this pin sets the ramp rate of the output voltage during start-up.", 6 PLLIN/MODE (in) "External Synchronization Input to Phase Detector and Forced Continuous Mode Input. When an external clock is applied to this pin, it will force the controller into forced continuous mode of operation and the phase-locked (See Datasheet)", 7 FREQ (in) "The Frequency Control Pin for the Internal VCO. Connecting the pin to GND forces the VCO to a fixed low frequency of 350kHz. Connecting the pin to INTVCC forces the VCO to a fixed high frequency of 535kHz. The frequency can (See Datasheet)", 8 RUN (in) "Run Control Input. Forcing this pin below 1.28V shuts down the controller. Forcing this pin below 0.7V shuts down the entire LTC3786, reducing quiescent current to approximately 8uA. An external resistor divider connected to (See Datasheet)", 9 GND (power) "Ground. Connects to the source of the bottom (main) N-channel MOSFET and the (-) terminal(s) of CIN and COUT . All small-signal components and compensation components should also connect to this ground. The exposed pad must (See Datasheet)", 10 BG (out) "Bottom Gate. Connect to the gate of the main N-channel MOSFET.", 11 INTVCC (power) "Output of Internal 5.4V LDO. Power supply for control circuits and gate drivers. Decouple this pin to GND with a minimum 4.7uF low ESR ceramic capacitor.", 12 VBIAS (power) "Main Supply Pin. It is normally tied to the input supply VIN or to the output of the boost converter. A bypass capacitor should be tied between this pin and the GND pin. The operating voltage range on this pin is 4.5V to 38V (See Datasheet)", 13 BOOST "Floating Power Supply for the Synchronous MOSFET. Bypass to SW with a capacitor and supply with a Schottky diode connected to INTVCC.", 14 TG (out) "Top Gate. Connect to the gate of the synchronous NMOS.", 15 SW "Switch Node. Connect to the source of the synchronous top MOSFET, the drain of the main bottom MOSFET, and the inductor", 16 PGOOD (oc) "Power Good Indicator. Open-drain logic output that is pulled to ground when the output voltage is more than +/-10 % away from the regulated output voltage. To avoid false trips the output voltage must be outside of the range (See Datasheet)", 17 EP (power) "The exposed pad must be soldered to the PCB for rated thermal performance."

## LTC3786IUD#PBF
designator U?
Sync Boost Controller, Low 55 uA IQ, 16-pin QFN (UD-16), -40 to 125 degC, Pb-Free; Manufacturer: Linear Technology; PartNumber: LTC3786IUD#PBF; Number of Outputs: 1; PackageReference: UD-16; PackageDescription: 16-Pin Plastic QFN, Body 3 x 3 mm, Pitch 0.5 mm; Supplier 1: Digi-Key; Supplier Part Number 1: LTC3786IUD#PBF-ND; RoHS: TRUE; Code_JEDEC: MO-220
footprint LT-UD-16_N (QFN, 16-Leads, Body 3x3mm, Pitch 0.5mm, Thermal Pad 1.45x1.45mm, IPC Medium Density)
footprint LT-UD-16_L (QFN, 16-Leads, Body 3x3mm, Pitch 0.5mm, Thermal Pad 1.45x1.45mm, IPC High Density)
footprint LT-UD-16_M (QFN, 16-Leads, Body 3x3mm, Pitch 0.5mm, Thermal Pad 1.45x1.45mm, IPC Low Density)
pins: 1 SW "Switch Node. Connect to the source of the synchronous top MOSFET, the drain of the main bottom MOSFET, and the inductor", 2 PGOOD (oc) "Power Good Indicator. Open-drain logic output that is pulled to ground when the output voltage is more than +/-10 % away from the regulated output voltage. To avoid false trips the output voltage must be outside of the range (See Datasheet)", 3 VFB (in) "Error Amplifier Feedback Input. This pin receives the remotely sensed feedback voltage from an external resistive divider connected across the output", 4 SENSE+ (in) "Positive Current Sense Comparator Input. The (+) input to the current comparator is normally connected to the positive terminal of a current sense resistor. The current sense resistor is normally placed at the input of the (See Datasheet)", 5 SENSE- (in) "Negative Current Sense Comparator Input. The (-) input to the current comparator is normally connected to the negative terminal of a current sense resistor connected in series with the inductor. The common mode voltage range (See Datasheet)", 6 ITH "Current Control Threshold and Error Amplifier Compensation Point. The voltage on this pin sets the current trip threshold.", 7 SS (in) "Output Soft-Start Input. A capacitor to ground at this pin sets the ramp rate of the output voltage during start-up.", 8 PLLIN/MODE (in) "External Synchronization Input to Phase Detector and Forced Continuous Mode Input. When an external clock is applied to this pin, it will force the controller into forced continuous mode of operation and the phase-locked (See Datasheet)", 9 FREQ (in) "The Frequency Control Pin for the Internal VCO. Connecting the pin to GND forces the VCO to a fixed low frequency of 350kHz. Connecting the pin to INTVCC forces the VCO to a fixed high frequency of 535kHz. The frequency can (See Datasheet)", 10 RUN (in) "Run Control Input. Forcing this pin below 1.28V shuts down the controller. Forcing this pin below 0.7V shuts down the entire LTC3786, reducing quiescent current to approximately 8uA. An external resistor divider connected to (See Datasheet)", 11 GND (power) "Ground. Connects to the source of the bottom (main) N-channel MOSFET and the (-) terminal(s) of CIN and COUT . All small-signal components and compensation components should also connect to this ground. The exposed pad must (See Datasheet)", 12 BG (out) "Bottom Gate. Connect to the gate of the main N-channel MOSFET.", 13 INTVCC (power) "Output of Internal 5.4V LDO. Power supply for control circuits and gate drivers. Decouple this pin to GND with a minimum 4.7uF low ESR ceramic capacitor.", 14 VBIAS (power) "Main Supply Pin. It is normally tied to the input supply VIN or to the output of the boost converter. A bypass capacitor should be tied between this pin and the GND pin. The operating voltage range on this pin is 4.5V to 38V (See Datasheet)", 15 BOOST "Floating Power Supply for the Synchronous MOSFET. Bypass to SW with a capacitor and supply with a Schottky diode connected to INTVCC.", 16 TG (out) "Top Gate. Connect to the gate of the synchronous NMOS.", 17 EP (power) "The exposed pad must be soldered to the PCB for rated thermal performance."